# Altium schematic symbol library MCP73114-0NSI_MF.SchLib: 1 symbol
Pins are listed as number, name and electrical type; pins without a type are passive.

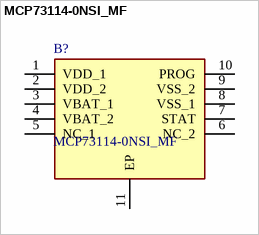
[diagram p0: symbol MCP73114-0NSI_MF]

## MCP73114-0NSI_MF
designator B?
Single cell, 5.8V OVP battery Charger; Manufacturer_Name: Microchip; Manufacturer_Part_Number: MCP73114-0NSI/MF; Geometry.Height: 1mm; TME Electronic Components Part Number: *; TME Electronic Components Price/Stock: *; Datasheet Link: http://ww1.microchip.com/downloads/en/DeviceDoc/20002183E.pdf
footprint SON50P300X300X100-11N-D
pins: 1 VDD_1, 2 VDD_2, 3 VBAT_1, 4 VBAT_2, 5 NC_1, 6 NC_2, 7 STAT, 8 VSS_1, 9 VSS_2, 10 PROG, 11 EP